# EAGLE library part 2X4_GOLD_FINGER (library clackboard_lib)
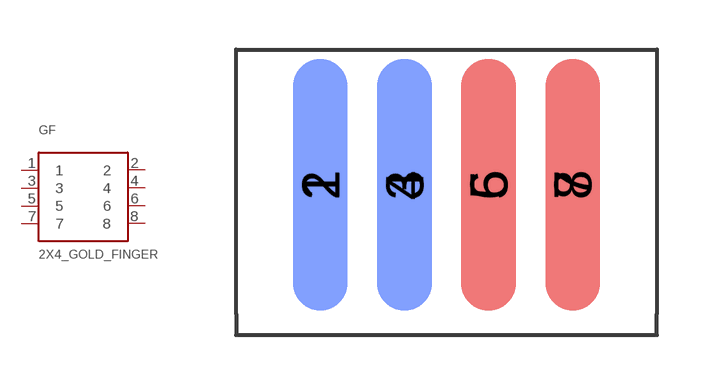
[diagram p16: symbol with the pads of 2X4_GOLD_FINGER; footprint 2X4_GOLD_FINGER]

Designator prefix GF

## 2X4_GOLD_FINGER  [2X4_GOLD_FINGER]
1  1
2  2
3  3
4  4
5  5
6  6
7  7
8  8

## Footprint 2X4_GOLD_FINGER (pad centres in mm)
smd 1.651 x 7.62: 1 -3.81,3.9; 3 -1.27,3.9; 5 1.27,3.9; 7 3.81,3.9
smd 1.651 x 7.62 bottom: 2 -3.81,3.9; 4 -1.27,3.9; 6 1.27,3.9; 8 3.81,3.9